# Altium footprint library esp12F.PcbLib: 10 footprints
Each footprint in its own frame and in the unit in brackets; x right, y up, seen from the top. Pads: shape width x height; smd on the part's side, far side on the other; paste and mask are expansions set on the pad; w line width, h text height; cw(c..) or ccw(c..) is an arc to the next point about the centre after c.
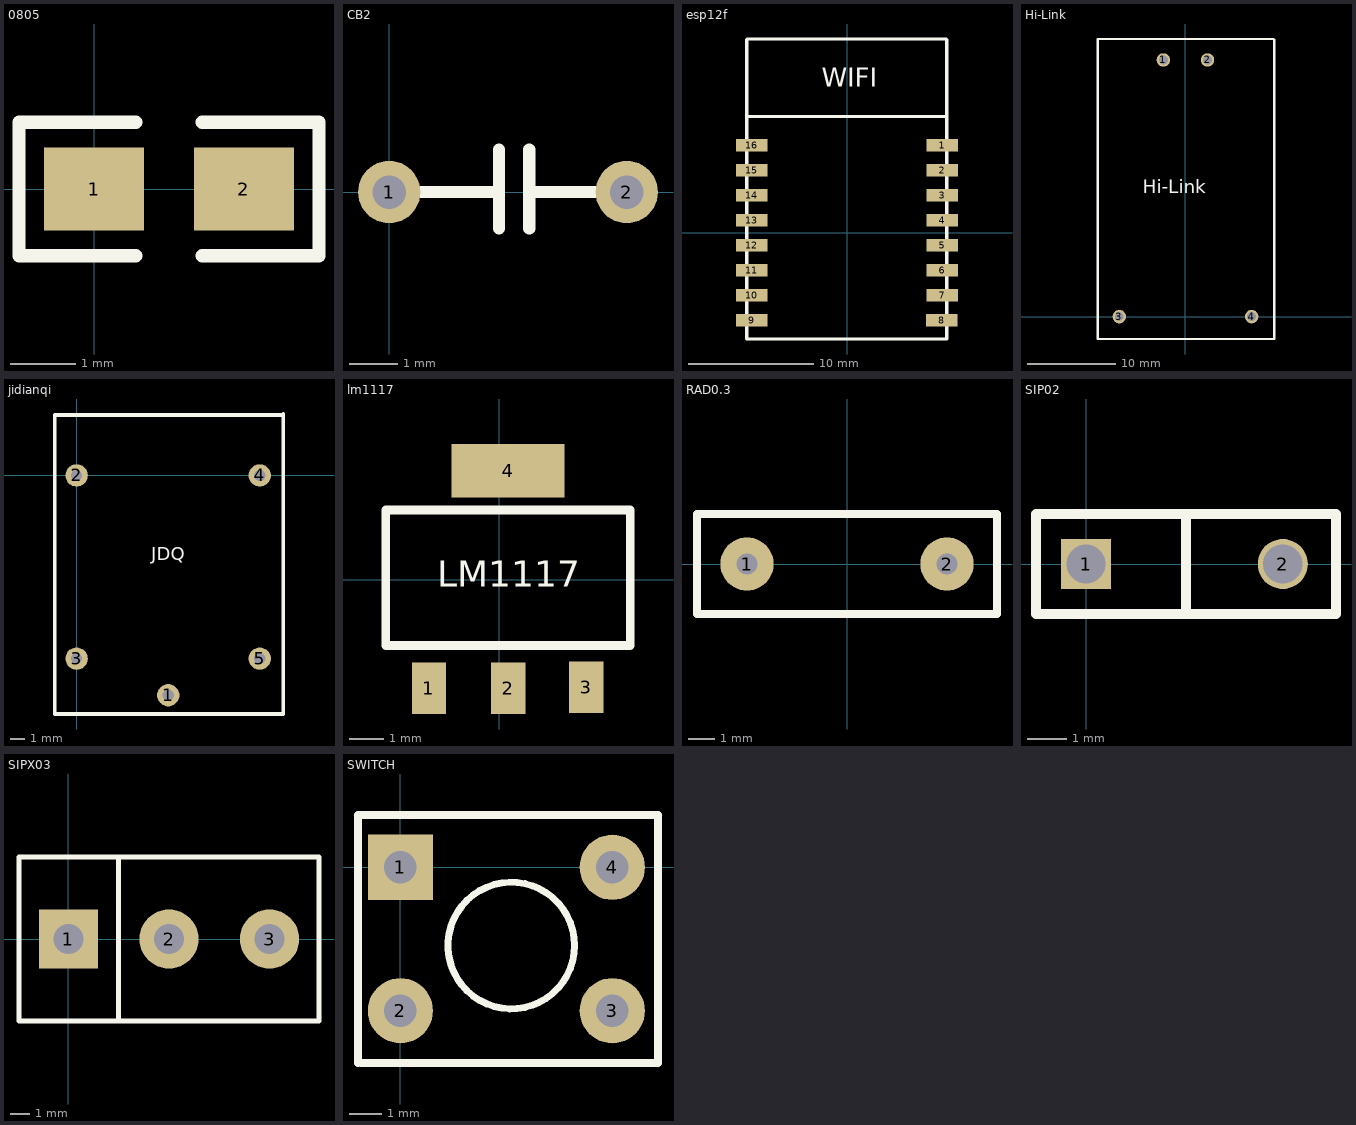
[diagram p0: the footprints below, top view; thin cyan lines are the x and y axes]

## 0805 [mil]
pads (2):
  rect 60x50 smd: 1(0,0) 2(90,0)
Top Overlay:
  lines w8: 25,-40 -45,-40 -45,40 25,40 ; 65,-40 135,-40 135,40 65,40

## CB2 [mm]
pads (2):
  round 1.3 hole 0.7: 1(0,0) 2(4.953,0)
Top Overlay:
  lines w0.254: 0.635,0 1.27,0 2.286,0 ; 2.286,-0.762 2.286,0.889 ; 2.921,-0.762 2.921,0.889 ; 3.048,0 4.953,0
3D body "1206 SMD Capacitor.STEP": height 1.3, standoff -0.3, extent 0.813,-0.508 4.013,0.494

## esp12f [mm]
pads (16):
  rect 2.5x1 smd: 1(7.62,7) 2(7.62,5) 3(7.62,3) 4(7.62,1) 5(7.62,-1) 6(7.62,-3) 7(7.62,-5) 8(7.58,-7) 9(-7.62,-7) 10(-7.62,-5) 11(-7.62,-3) 12(-7.62,-1) 13(-7.62,1) 14(-7.62,3) 15(-7.62,5) 16(-7.62,7)
Top Overlay:
  lines w0.254: -8.02,-8.49 -8.015,-8.485 -7.62,-8.485 0.889,-8.485 7.975,-8.485 ; -8.02,-8.48 -8.02,-2.413 -8.02,0 -8.02,15.475 -7.98,15.515 -7.62,15.515 0.889,15.515 7.938,15.515 7.98,15.473 7.98,-2.413 7.98,-8.49 ; -7.976,9.315 -7.62,9.315 0.889,9.315 7.936,9.315
  text "WIFI" at -2.032,11.684 h1.52
3D body "wifi_a.stp": height 1.74, standoff -0.06, extent -6.104,-7.246 6.096,5.654

## Hi-Link [mil]
pads (4):
  round 60 hole 39.37: 1(-98.43,1145) 2(98.43,1145) 3(-295.28,0) 4(295.28,0)
Top Overlay:
  lines w10: -391.3,-100 396.1,-100 396.1,1179.57 396.1,1234.76 392.28,1238.58 -391.3,1238.58 -391.3,-100
  text "Hi-Link" at -190,550 h60
3D body: height 590.55, standoff 0, extent -390,-100 395,1235

## jidianqi [mil]
pads (5):
  round 60 hole 30: 1(246.06,-590.55) 2(0,0) 3(0,-492.13) 4(492.13,0) 5(492.13,-492.13)
Top Overlay:
  lines w10: 552.09,162.09 530.63,162.09 -58.5,162.09 -58.5,-640.94 555,-640.94 555,165
  text "JDQ" at 200,-240 h60
3D body: height 590.55, standoff 0, extent -60,-640 555,160

## lm1117 [mm]
pads (4):
  rect 1x1.5 smd: 1(-2.043,-3.148) 2(0.256,-3.148) 3(2.53,-3.123)
  rect 3.3x1.549 smd: 4(0.254,3.175)
Top Overlay:
  lines w0.254: -3.302,-1.905 3.81,-1.905 3.81,2.032 -3.302,2.032 -3.302,-1.905
  text "LM1117" at -1.8,-0.2 h0.76
3D body: height 2, standoff 0, extent -3.302,-1.905 3.81,2.032

## RAD0.3 [mil]
pads (2):
  round 80 hole 32: 1(-150,0) 2(150,0)
Top Overlay:
  lines w12: -225,-75 -225,75 225,75 225,-75 -225,-75
3D body "RES1210.STEP": height 68.69, standoff -29.32, extent -78.75,-35 78.75,32.1

## SIP02 [mm]
pads (2):
  rect 1.27x1.27 hole 1: 1(0,0)
  round 1.27 hole 1: 2(5,0)
Top Overlay:
  lines w0.254: 2.54,-1.27 2.54,1.27 ; -1.27,-1.27 3.81,-1.27 6.35,-1.27 6.35,1.27 4.445,1.27 -1.27,1.27 -1.27,-1.27

## SIPX03 [mm]
pads (3):
  rect 3x3 hole 1.5: 1(0,0)
  round 3 hole 1.5: 2(5.08,0) 3(10.16,0)
Top Overlay:
  lines w0.254: 2.54,-4.15 2.54,4.15 ; -2.5,-4.15 -2.5,4.15 12.66,4.15 12.66,-4.15 -2.5,-4.15

## SWITCH [mm]
pads (4):
  rect 2x2 hole 1: 1(0,0)
  round 2 hole 1: 2(0,-4.4) 3(6.5,-4.4) 4(6.5,0)
Top Overlay:
  circle w0.212: c3.4,-2.4 r1.942
  lines w0.254: -1.3,-6 -1.3,1.6 7.9,1.6 7.9,-6 -1.2,-6
3D body: height 4, standoff 0, extent 1.302,-4.413 5.302,-0.413
3D body: height 2, standoff 0, extent 0.127,-4.699 6.731,0.254